# Altium footprint library ARM_CTR.PcbLib: 1 footprints
Each footprint in its own frame and in the unit in brackets; x right, y up, seen from the top. Pads: shape width x height; smd on the part's side, far side on the other; paste and mask are expansions set on the pad; w line width, h text height; cw(c..) or ccw(c..) is an arc to the next point about the centre after c.
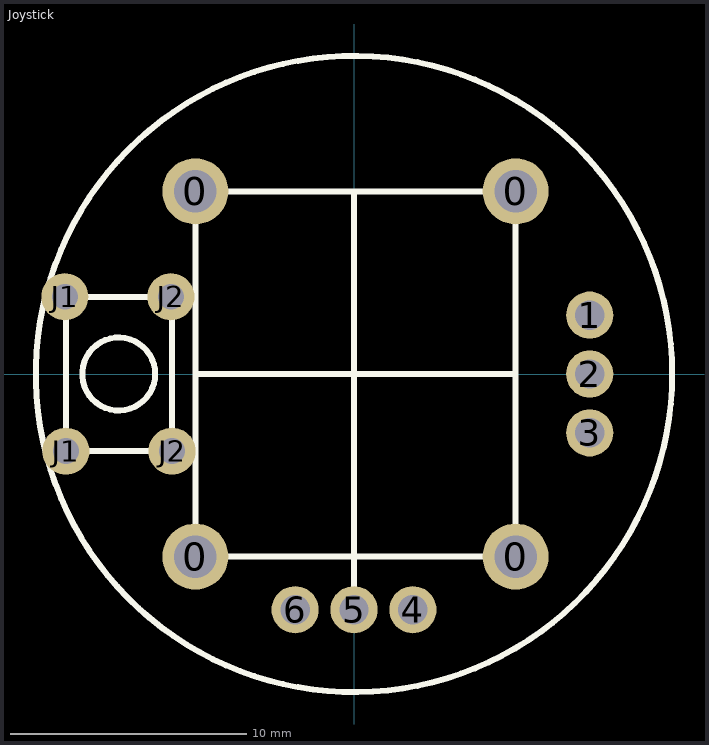
[diagram p0: the footprint, top view; thin cyan lines are the x and y axes]

## Joystick [mm]
pads (14):
  round 2.8 hole 1.8: 0(-6.731,-7.747) 0(-6.731,7.753) 0(6.858,-7.747) 0(6.858,7.753)
  round 2 hole 1.25: 1(10,2.5) 2(10,0) 3(10,-2.5) 4(2.5,-10) 5(0,-10) 6(-2.5,-10)
  round 2 hole 1.1: J1(-12.268,3.277) J1(-12.222,-3.274) J2(-7.768,3.277) J2(-7.722,-3.274)
Top Overlay:
  circle w0.254: c-9.982,0 r1.547
  circle w0.254: c0,0 r13.5
  lines w0.254: -12.268,3.277 -7.768,3.277 -7.722,3.23 -7.722,-3.274 -12.222,-3.274 -12.222,3.23 ; -6.731,0 0,0 ; 0,-10 0,0 ; 0,7.753 0,0 ; 6.769,-7.747 -6.731,-7.747 -6.731,7.753 6.769,7.753 ; 6.858,-7.747 6.858,7.753 ; 6.858,0 0,0
3D body "User Library-ALPS JOYSTICK.STEP": height 29.68, standoff -4.1, extent -16.082,-13.081 12.954,13.219